# Altium footprint library DDS_PCB1.PcbLib: 29 footprints (part 2 of 2)
Each footprint in its own frame and in the unit in brackets; x right, y up, seen from the top. Pads: shape width x height; smd on the part's side, far side on the other; paste and mask are expansions set on the pad; w line width, h text height; cw(c..) or ccw(c..) is an arc to the next point about the centre after c.
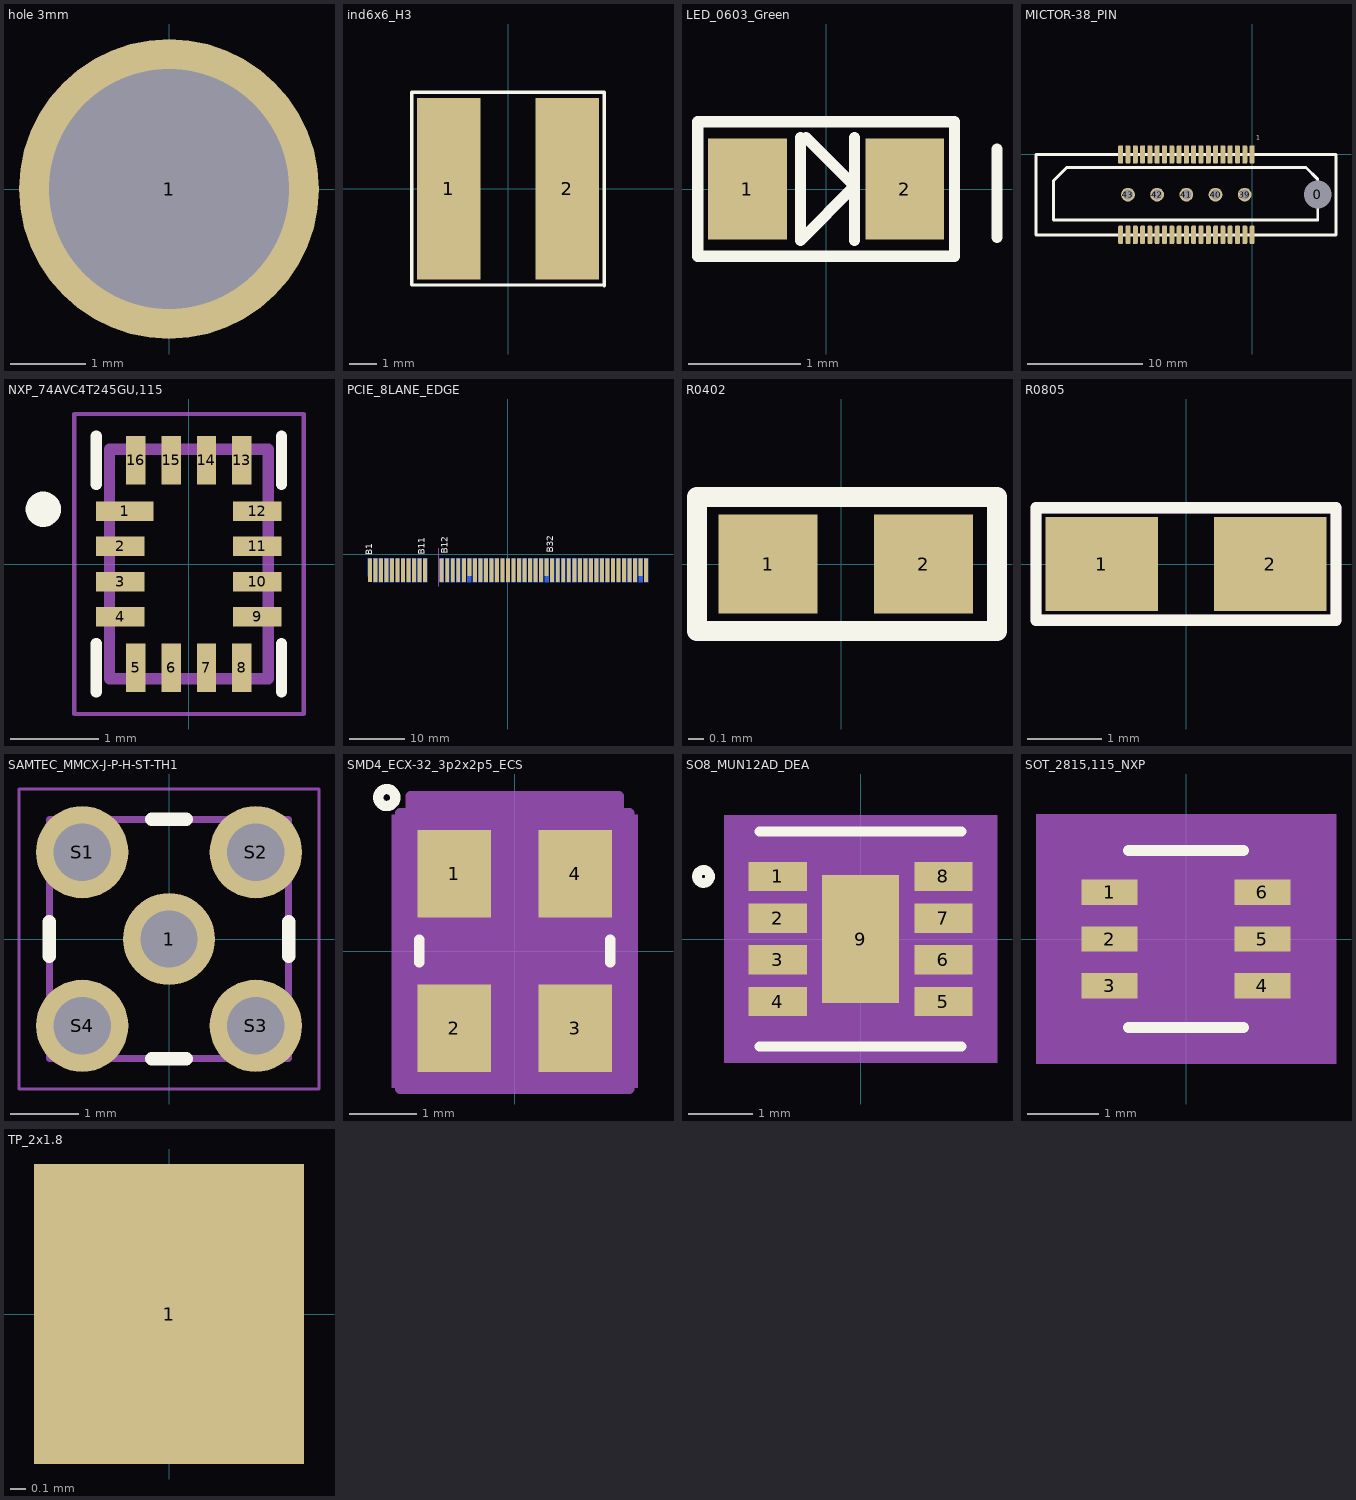
[diagram p1: the footprints below, top view; thin cyan lines are the x and y axes]

## hole 3mm [mm] "hole 3mm"
pads (1):
  round 4 hole 3.2: 1(0,0)

## ind6x6_H3 [mm]
pads (2):
  rect 2.3x6.6 smd mask+0.05: 1(-2.15,0) 2(2.15,0)
Top Overlay:
  lines w0.12: 3.5,-3.526 3.5,3.474 ; 3.5,-3.5 -3.5,-3.5 -3.5,3.5 3.5,3.5
3D body "Coilcraft-LPS6235-DEFAULT.STEP": height 3.5, standoff 0, extent -3.103,-3.103 3.103,3.103

## LED_0603_Green [mm] "LED 0603, Green"
pads (2):
  rect 0.7x0.9 smd mask+0.05: 1(-0.7,0) 2(0.7,0)
Top Overlay:
  lines w0.1: -0.229,0.457 -0.229,-0.457 0.254,0.025 -0.178,0.457 ; 0.254,-0.457 0.254,0.457 ; 1.524,-0.432 1.524,0.356
  lines w0.102: -1.145,-0.6 1.145,-0.6 1.145,0.6 -1.145,0.6 -1.145,-0.6
3D body "2610002_LED SMD-0603(Green).stp": height 0.7, standoff 0, extent -0.8,-0.4 0.8,0.4

## MICTOR-38_PIN [mm]
pads (44):
  round 1.524 hole 2.43: 0(5.71,-3.495)
  rrect50% 0.43x1.6 smd: 1(0,0) 2(0,-6.99) 3(-0.635,0) 4(-0.635,-6.99) 5(-1.27,0) 6(-1.27,-6.99) 7(-1.905,0) 8(-1.905,-6.99) 9(-2.54,0) 10(-2.54,-6.99) 11(-3.175,0) 12(-3.175,-6.99) 13(-3.81,0) 14(-3.81,-6.99) 15(-4.445,0) 16(-4.445,-6.99) 17(-5.08,0) 18(-5.08,-6.99) 19(-5.715,0) 20(-5.715,-6.99) 21(-6.35,0) 22(-6.35,-6.99) 23(-6.985,0) 24(-6.985,-6.99) 25(-7.62,0) 26(-7.62,-6.99) 27(-8.255,0) 28(-8.255,-6.99) 29(-8.89,0) 30(-8.89,-6.99) 31(-9.525,0) 32(-9.525,-6.99) 33(-10.16,0) 34(-10.16,-6.99) 35(-10.795,0) 36(-10.795,-6.99) 37(-11.43,0) 38(-11.43,-6.99)
  round 1.2 hole 0.86: 39(-0.64,-3.495) 40(-3.18,-3.495) 41(-5.72,-3.495) 42(-8.26,-3.495) 43(-10.8,-3.495)
Top Overlay:
  lines w0.254: -18.796,-6.99 -18.796,0 7.3,0 7.3,-6.99 -18.796,-6.99 ; -17.272,-5.715 -17.272,-2.286 -16.129,-1.143 4.699,-1.143 5.715,-2.159 5.715,-5.715 -17.272,-5.715
  text "1" at 0.381,1.143 h0.64
3D body "c-2-5767004-2-d1-3d.stp": height 6.05, standoff -1.34, extent -18.42,-7.851 6.98,0.861

## NXP_74AVC4T245GU,115 [mm]
pads (16):
  rect 0.65x0.22 smd: 1(-0.725,0.6)
  rect 0.55x0.22 smd: 2(-0.775,0.2) 3(-0.775,-0.2) 4(-0.775,-0.6) 9(0.775,-0.6) 10(0.775,-0.2) 11(0.775,0.2) 12(0.775,0.6)
  rect 0.22x0.55 smd: 5(-0.6,-1.175) 6(-0.2,-1.175) 7(0.2,-1.175) 8(0.6,-1.175) 13(0.6,1.175) 14(0.2,1.175) 15(-0.2,1.175) 16(-0.6,1.175)
Top Overlay:
  circle w0.2: c-1.65,0.62 r0.1
  lines w0.127: -1.05,-1.45 -1.05,-0.9 ; -1.05,0.9 -1.05,1.45 ; 1.05,-1.45 1.05,-0.9 ; 1.05,0.9 1.05,1.45
Mechanical 13:
  lines w0.127: -0.9,-1.3 0.9,-1.3 0.9,1.3 -0.9,1.3 -0.9,-1.3
Mechanical 15:
  lines w0.05: -1.3,-1.7 1.3,-1.7 1.3,1.7 -1.3,1.7 -1.3,-1.7
3D body "step_temp.STEP": height 0.5, standoff 0, extent -0.9,-1.3 0.9,1.3

## PCIE_8LANE_EDGE [mil] "PCIE_8LANE_EDGE"
pads (98):
  rect 28x126 smd far side: A1(-984.25,-93.98)
  rect 28x169 smd far side: A2(-944.88,-115.48) A3(-905.51,-115.48) A4(-866.14,-115.48) A5(-826.77,-115.48) A6(-787.4,-115.48) A7(-748.03,-115.48) A8(-708.66,-115.48) A9(-669.29,-115.48) A10(-629.92,-115.48) A11(-590.55,-115.48) A12(-472.44,-115.48) A13(-433.07,-115.48) A14(-393.7,-115.48) A15(-354.33,-115.48) A16(-314.96,-115.48) A17(-275.59,-115.48) A18(-236.22,-115.48) A19(-196.85,-115.48) A20(-157.48,-115.48) A21(-118.11,-115.48) A22(-78.74,-115.48) A23(-39.37,-115.48) A24(0,-115.48) A25(39.37,-115.48) A26(78.74,-115.48) A27(118.11,-115.48) A28(157.48,-115.48) A29(196.85,-115.48) A30(236.22,-115.48) A31(275.59,-115.48) A32(314.96,-115.48) A33(354.33,-115.48) A34(393.7,-115.48) A35(433.07,-115.48) A36(472.44,-115.48) A37(511.81,-115.48) A38(551.18,-115.48) A39(590.55,-115.48) A40(629.92,-115.48) A41(669.29,-115.48) A42(708.66,-115.48) A43(748.03,-115.48) A44(787.4,-115.48) A45(826.77,-115.48) A46(866.14,-115.48) A47(905.51,-115.48) A48(944.88,-115.48) A49(984.25,-115.48)
  rect 28x169 smd: B1(-984.25,-115.48) B2(-944.88,-115.48) B3(-905.51,-115.48) B4(-866.14,-115.48) B5(-826.77,-115.48) B6(-787.4,-115.48) B7(-748.03,-115.48) B8(-708.66,-115.48) B9(-669.29,-115.48) B10(-629.92,-115.48) B11(-590.55,-115.48) B12(-472.44,-115.48) B13(-433.07,-115.48) B14(-393.7,-115.48) B15(-354.33,-115.48) B16(-314.96,-115.48) B18(-236.22,-115.48) B19(-196.85,-115.48) B20(-157.48,-115.48) B21(-118.11,-115.48) B22(-78.74,-115.48) B23(-39.37,-115.48) B24(0,-115.48) B25(39.37,-115.48) B26(78.74,-115.48) B27(118.11,-115.48) B28(157.48,-115.48) B29(196.85,-115.48) B30(236.22,-115.48) B32(314.96,-115.48) B33(354.33,-115.48) B34(393.7,-115.48) B35(433.07,-115.48) B36(472.44,-115.48) B37(511.81,-115.48) B38(551.18,-115.48) B39(590.55,-115.48) B40(629.92,-115.48) B41(669.29,-115.48) B42(708.66,-115.48) B43(748.03,-115.48) B44(787.4,-115.48) B45(826.77,-115.48) B46(866.14,-115.48) B47(905.51,-115.48) B49(984.25,-115.48)
  rect 28x126 smd: B17(-275.59,-93.98) B31(275.59,-93.98) B48(944.88,-93.98)
Top Overlay:
  text "B32" at 340.02,10.37 h78.74
  text "B11" at -574.98,-4.63 h78.74
  text "B12" at -409.98,0.37 h78.74
  text "B1" at -949.98,-9.63 h78.74
Bottom Overlay:
  text "A32" at 295.02,10.37 h78.74
  text "A12" at -489.98,-19.63 h78.74
  text "A11" at -634.98,-14.63 h78.74
  text "A1" at -987.16,7.02 h78.74
Mechanical 3:
  lines w1: -494.09,-231.3 -494.09,42.32
Mechanical 28:
  text ".Designator" at 156.85,-133.17 h78.74

## R0402 [mil] "R0402"
pads (2):
  rect 25x25 smd mask+2: 1(-18.5,0) 2(20.9,0)
Top Overlay:
  lines w5: -36.5,-17 39.5,-17 39.5,17 36.5,17 -36.5,17 -36.5,-17
Mechanical 16:
  lines w5: -36.5,-17 39.5,-17 39.5,17 -36.5,17 -36.5,-17
3D body "User Library-RESC1005X04N.STEP": height 13.78, standoff 0, extent -19.68,-10 19.68,9.69

## R0805 [mil] "R0805"
pads (2):
  rect 60x50 smd mask+2: 1(-45,0) 2(45,0)
Top Overlay:
  lines w6: -80,-30 -80,30 80,30 80,-30 -80,-30
Mechanical 16:
  lines w6: -80,-30 -80,30 80,30 80,-30 -80,-30
Mechanical 18:
  text "2" at 45,-10 h25
  text "1" at -45,-10 h25
3D body "SW3dPS-0805 SMD Resistor.STEP": height 30.79, standoff 0, extent -39.37,-25 39.37,24.21

## SAMTEC_MMCX-J-P-H-ST-TH1 [mm]
height 4.35
pads (5):
  round 1.348 hole 0.84: 1(0,0) S1(-1.27,1.27) S2(1.27,1.27) S3(1.27,-1.27) S4(-1.27,-1.27)
Top Overlay:
  lines w0.2: -1.75,-0.25 -1.75,0.25 ; -0.25,-1.75 0.25,-1.75 ; -0.25,1.75 0.25,1.75 ; 1.75,-0.25 1.75,0.25
Mechanical 13:
  lines w0.1: -1.75,-1.75 -1.75,1.75 1.75,1.75 1.75,-1.75 -1.75,-1.75
Mechanical 15:
  lines w0.05: -2.195,-2.195 2.195,-2.195 2.195,2.195 -2.195,2.195 -2.195,-2.195
3D body "MMCX-J-P-H-ST-TH1.stp": height 4.35, standoff -3.05, extent -1.75,-1.75 1.75,1.75

## SMD4_ECX-32_3p2x2p5_ECS [mm]
pads (4):
  rect 1.1x1.3 smd paste-0.55 mask+0: 1(-0.9,1.15) 2(-0.9,-1.15) 3(0.9,-1.15) 4(0.9,1.15)
Top Overlay:
  circle w0.152: c-1.905,2.286 r0.127
  lines w0.152: -1.422,-0.167 -1.422,0.167 ; 1.422,-0.167 1.422,0.167
Mechanical 5:
  region: 1.831,-2.032 -1.831,-2.032 -1.831,2.032 1.831,2.032
Mechanical 13:
  circle w0: c-0.35,1.15 r0.076
  lines w0: -0.305,1.651 ccw(c0,1.651) 0.305,1.651
  lines w0.025: -1.295,-1.651 -1.295,1.651 1.295,1.651 1.295,-1.651 -1.295,-1.651
Mechanical 15:
  region: -1.549,-2.054 -1.704,-2.054 -1.704,2.054 -1.549,2.054 -1.549,2.308 1.549,2.308 1.549,2.054 1.704,2.054 1.704,-2.054 1.549,-2.054
  lines w0.152: -1.704,-2.054 -1.549,-2.054 1.549,-2.054 1.704,-2.054 1.704,2.054 1.549,2.054 1.549,2.308 -1.549,2.308 -1.549,2.054 -1.704,2.054 -1.704,-2.054
3D body "SMD4_ECX-32_3p2x2p5_ECS.step": height 0.81, standoff 0, extent -1.295,-1.651 1.295,1.651

## SO8_MUN12AD_DEA [mm]
pads (9):
  rect 0.91x0.458 smd paste+0 mask+0: 1(-1.293,0.975) 2(-1.293,0.325) 3(-1.293,-0.325) 4(-1.293,-0.975) 5(1.293,-0.975) 6(1.293,-0.325) 7(1.293,0.325) 8(1.293,0.975)
  rect 1.2x2 smd paste+0 mask+0: 9(0,0)
Top Overlay:
  circle w0.152: c-2.449,0.975 r0.102
  lines w0.152: -1.575,-1.676 1.575,-1.676 ; -1.575,1.676 1.575,1.676
Mechanical 5:
  region: 2.129,-1.93 -2.129,-1.93 -2.129,1.93 2.129,1.93
Mechanical 13:
  circle w0: c-0.838,0.975 r0.076
  lines w0: -0.305,1.549 ccw(c0,1.549) 0.305,1.549
  lines w0.025: -1.448,-1.549 1.448,-1.549 1.448,1.549 -1.448,1.549 -1.448,-1.549
Mechanical 15:
  region: -1.702,-1.458 -2.002,-1.458 -2.002,1.458 -1.702,1.458 -1.702,1.803 1.702,1.803 1.702,1.458 2.002,1.458 2.002,-1.458 1.702,-1.458 1.702,-1.803 -1.702,-1.803
  lines w0.152: -2.002,-1.458 -2.002,1.458 -1.702,1.458 -1.702,1.803 1.702,1.803 1.702,1.458 2.002,1.458 2.002,-1.458 1.702,-1.458 1.702,-1.803 -1.702,-1.803 -1.702,-1.458 -2.002,-1.458
3D body "SO8_MUN12AD_DEA.step": height 1.5, standoff 0, extent -1.448,-1.549 1.448,1.549

## SOT_2815,115_NXP [mm]
pads (6):
  rect 0.782x0.355 smd paste+0 mask+0: 1(-1.064,0.65) 2(-1.064,0) 3(-1.064,-0.65) 4(1.064,-0.65) 5(1.064,0) 6(1.064,0.65)
Top Overlay:
  lines w0.152: -0.8,-1.232 0.8,-1.232 ; -0.8,1.232 0.8,1.232
  text "." at -1.524,1.016 h1.27
Mechanical 5:
  region: 2.09,-1.74 -2.09,-1.74 -2.09,1.74 2.09,1.74
Mechanical 13:
  lines w0: -0.305,1.105 ccw(c0,1.105) 0.305,1.105
  lines w0.025: -1.105,-0.802 -0.673,-0.802 -0.673,-0.498 -1.105,-0.498 -1.105,-0.802 ; -1.105,-0.152 -0.673,-0.152 -0.673,0.152 -1.105,0.152 -1.105,-0.152 ; -1.105,0.498 -0.673,0.498 -0.673,0.802 -1.105,0.802 -1.105,0.498 ; -0.673,-1.105 -0.673,1.105 0.673,1.105 0.673,-1.105 -0.673,-1.105 ; 0.673,-0.802 1.105,-0.802 1.105,-0.498 0.673,-0.498 0.673,-0.802 ; 0.673,-0.152 1.105,-0.152 1.105,0.152 0.673,0.152 0.673,-0.152 ; 0.673,0.498 1.105,0.498 1.105,0.802 0.673,0.802 0.673,0.498
  text "*" at -0.61,-0.241 h1.27
Mechanical 15:
  region: -0.927,-1.081 -1.709,-1.081 -1.709,1.081 -0.927,1.081 -0.927,1.359 0.927,1.359 0.927,1.081 1.709,1.081 1.709,-1.081 0.927,-1.081 0.927,-1.359 -0.927,-1.359
  lines w0.152: -1.709,-1.081 -0.927,-1.081 -0.927,-1.359 0.927,-1.359 0.927,-1.081 1.709,-1.081 1.709,1.081 0.927,1.081 0.927,1.359 -0.927,1.359 -0.927,1.081 -1.709,1.081 -1.709,-1.081
3D body "SOT_2815115_NXP.step": height 1.09, standoff 0, extent -1.105,-1.105 1.105,1.105
3D body: height 0.25, standoff 0, extent 0,0 0.254,0.254

## TP_2x1.8 [mm]
pads (1):
  rect 1.8x2 smd mask+0.05: 1(0,0)
3D body: height 1, standoff 0, extent -0.864,-0.762 0.889,0.787